# EAGLE library part 649012227222 (library Wire_to_Board_Connectors_rev15d)
WR-MPC4-4.20mm Male Dual Row Angled Header with Mounting Pegs,12 pins=>Code : Con_WTB_MPC4_2_PCB_649012227222 <http://katalog.we-online.de/media/thumbs2/eican/thb_Con_WTB_MPC4_2_PCB_6490xx227222_pf2.jpg> Details see: http://katalog.we-online.de/en/em/649_0xx_227_222 Created 2014-06-06, Karrer Zheng 2014 (C) Würth Elektronik
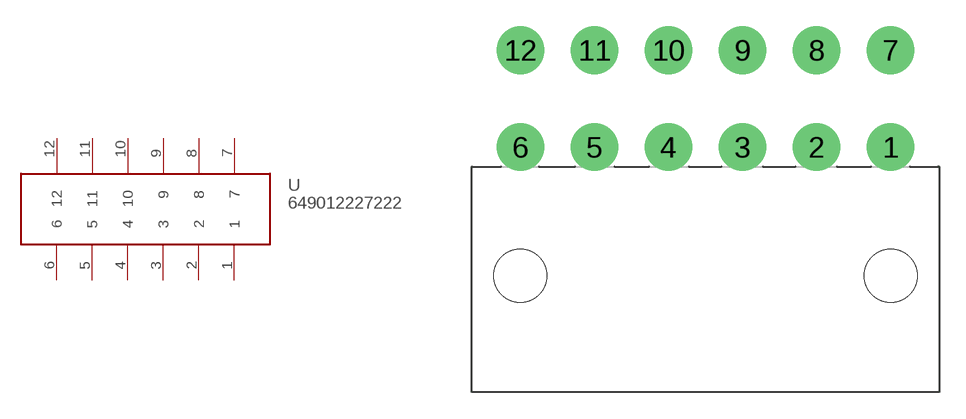
[diagram p293: symbol with the pads of 649012227222; footprint 649012227222]

Designator prefix -

## 649012227222  [649012227222]
1  1
2  2
3  3
4  4
5  5
6  6
7  7
8  8
9  9
10  10
11  11
12  12

## Footprint 649012227222 (pad centres in mm)
WR-MPC4-4.20mm Male Dual Row Angled Header with Mounting Pegs,12 pins
drill 1.8: 1 10.5,7.3; 2 6.3,7.3; 3 2.1,7.3; 4 -2.1,7.3; 5 -6.3,7.3; 6 -10.5,7.3; 7 10.5,12.8; 8 6.3,12.8; 9 2.1,12.8; 10 -2.1,12.8; 11 -6.3,12.8; 12 -10.5,12.8
hole 3 at -10.5,0
hole 3 at 10.5,0